# Altium schematic symbol library SENTHER_540B.SchLib: 1 symbol
Pins are listed as number, name and electrical type; pins without a type are passive.

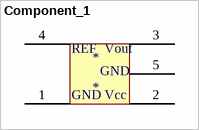
[diagram p0: symbol Component_1]

## Component_1
designator *
footprint Model Name (Footprint not found)
pins: 1 GND, 2 Vcc, 3 Vout, 4 REF, 5 GND